# Altium footprint library PMIC.PcbLib: 52 footprints (part 1 of 4)
Each footprint in its own frame and in the unit in brackets; x right, y up, seen from the top. Pads: shape width x height; smd on the part's side, far side on the other; paste and mask are expansions set on the pad; w line width, h text height; cw(c..) or ccw(c..) is an arc to the next point about the centre after c.
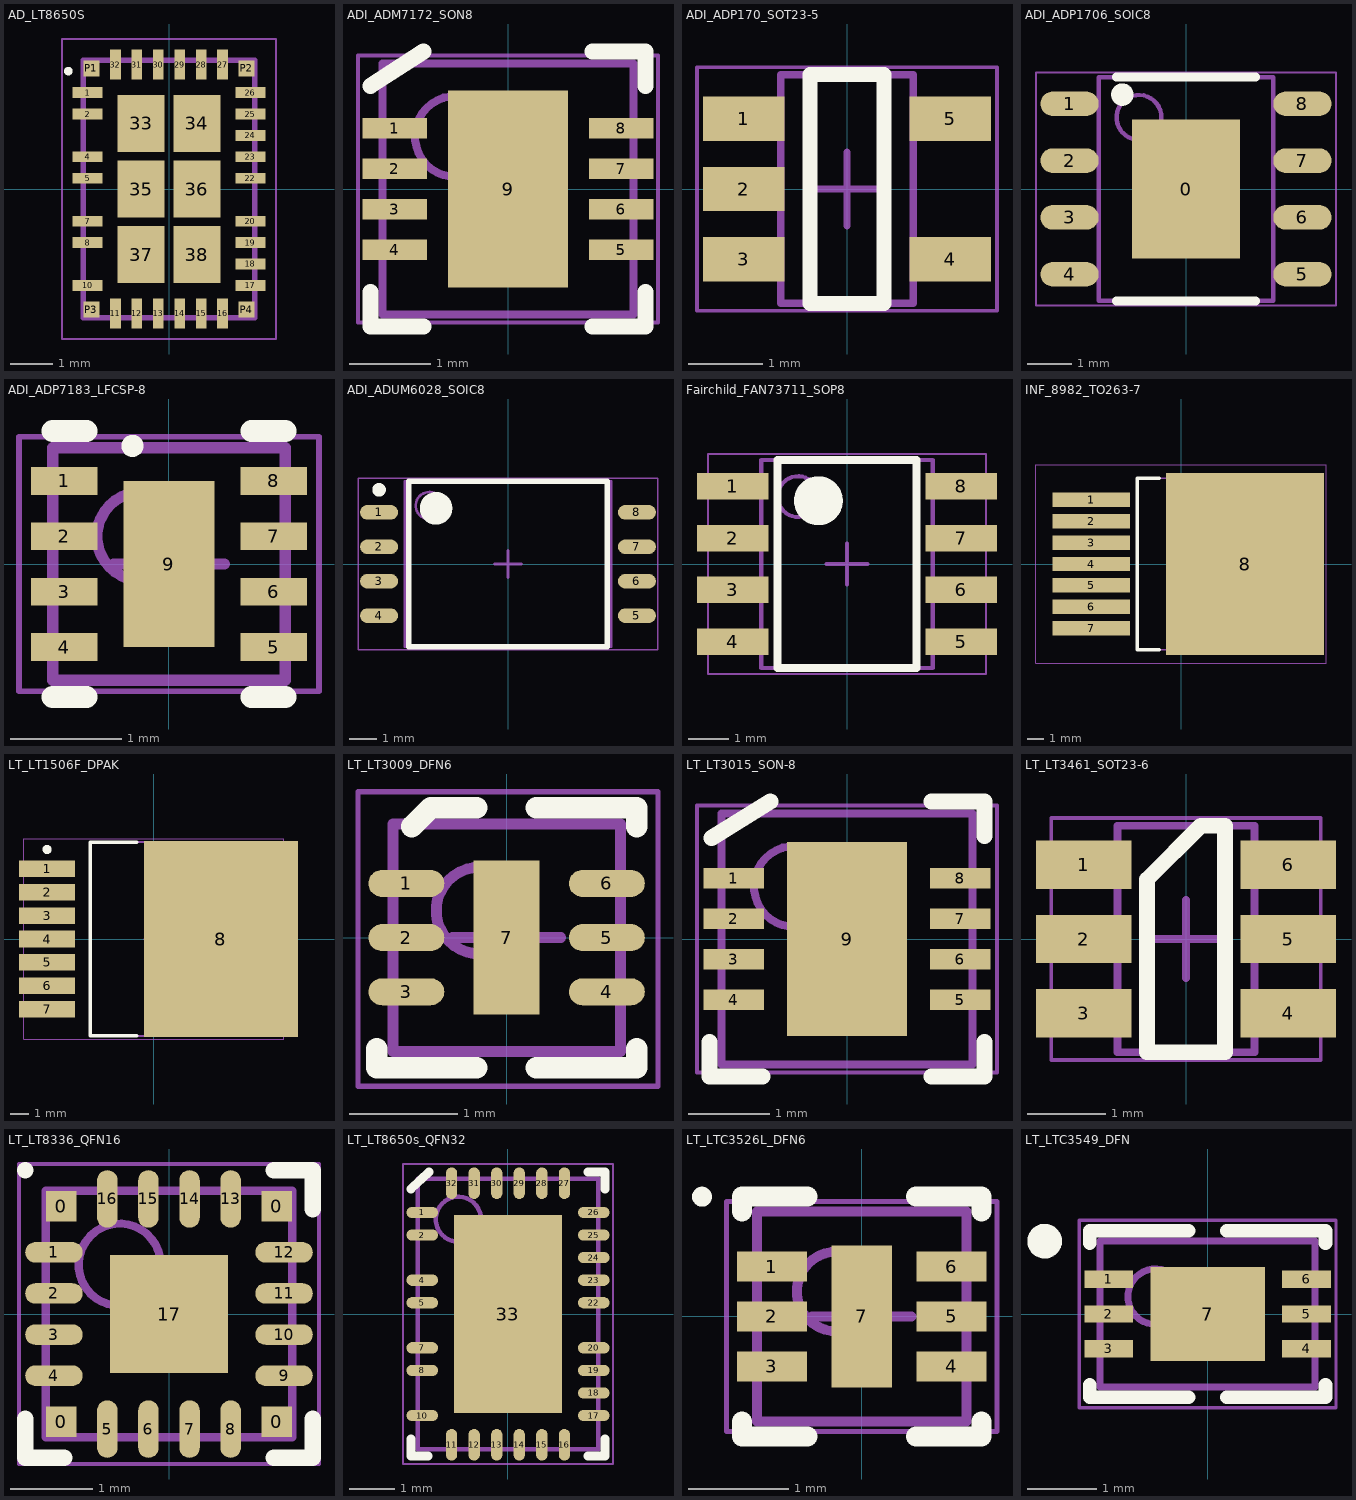
[diagram p0: the footprints below, top view; thin cyan lines are the x and y axes]

## AD_LT8650S [mm]
pads (38):
  rect 0.7x0.25 smd mask+0.05: 1(-1.9,2.25) 2(-1.9,1.75) 4(-1.9,0.75) 5(-1.9,0.25) 7(-1.9,-0.75) 8(-1.9,-1.25) 10(-1.9,-2.25) 17(1.9,-2.25) 18(1.9,-1.75) 19(1.9,-1.25) 20(1.9,-0.75) 22(1.9,0.25) 23(1.9,0.75) 24(1.9,1.25) 25(1.9,1.75) 26(1.9,2.25)
  rect 0.25x0.7 smd mask+0.05: 11(-1.25,-2.9) 12(-0.75,-2.9) 13(-0.25,-2.9) 14(0.25,-2.9) 15(0.75,-2.9) 16(1.25,-2.9) 27(1.25,2.9) 28(0.75,2.9) 29(0.25,2.9) 30(-0.25,2.9) 31(-0.75,2.9) 32(-1.25,2.9)
  rect 1.1x1.33 smd paste-2 mask+0.05: 33(-0.65,1.53) 34(0.65,1.53) 35(-0.65,0) 36(0.65,0) 37(-0.65,-1.53) 38(0.65,-1.53)
  rect 0.375x0.375 smd mask+0.05: P1(-1.813,2.812) P2(1.813,2.812) P3(-1.813,-2.812) P4(1.813,-2.812)
Top Overlay:
  circle w0.1: c-2.35,2.75 r0.05
Top Paste:
  region: 1,-1.957 0.3,-1.957 0.3,-1.105 1,-1.105
  region: 1,1.107 0.301,1.107 0.301,1.955 1,1.955
  region: 1,-0.425 0.3,-0.425 0.3,0.425 1,0.425
  region: -0.3,-1.959 -1.002,-1.959 -1.002,-1.105 -0.3,-1.105
  region: -0.3,1.107 -1.002,1.107 -1.002,1.955 -0.3,1.955
  region: -0.3,-0.426 -1.001,-0.426 -1.001,0.425 -0.3,0.425
Mechanical 13:
  lines w0.127: -2,-3 -2,3 2,3 2,-3 -2,-3
Mechanical 15:
  lines w0.05: -2.5,-3.5 -2.5,3.5 2.5,3.5 2.5,-3.5 -2.5,-3.5
3D body "LT_LT8650s_QFN32.step": height 1.03, standoff 0, extent -2.01,-3.01 2.01,3.01

## ADI_ADM7172_SON8 [mm] "SON, 8-Leads, Body 3.00x3.00mm, Pitch 0.50mm, Thermal Pad 2.44x1.49mm, IPC High Density"
height 0.8
pads (9):
  rect 0.8x0.25 smd mask+0.05: 1(-1.4,0.75) 2(-1.4,0.25) 3(-1.4,-0.25) 4(-1.4,-0.75) 5(1.4,-0.75) 6(1.4,-0.25) 7(1.4,0.25) 8(1.4,0.75)
  rect 1.49x2.44 smd mask+0.05: 9(0,0)
Top Overlay:
  lines w0.2: -1.7,-1.275 -1.7,-1.7 -1.045,-1.7 ; -1.7,1.275 -1.045,1.7 ; 1.045,-1.7 1.7,-1.7 1.7,-1.275 ; 1.045,1.7 1.7,1.7 1.7,1.275
Mechanical 13:
  circle w0.1: c-0.65,0.65 r0.5
  lines w0.1: -1.55,-1.55 1.55,-1.55 1.55,1.55 -1.55,1.55 -1.55,-1.55
Mechanical 15:
  lines w0.05: -1.855,-1.65 1.855,-1.65 1.855,1.65 -1.855,1.65 -1.855,-1.65
  lines w0.1: -0.5,0 0.5,0 ; 0,-0.5 0,0.5
3D body "ADI_ADM7172_SON8.step": height 0.8, standoff 0, extent -1.551,-1.55 1.551,1.55

## ADI_ADP170_SOT23-5 [mm] "SOT23, 5-Leads, Body 2.90x2.70mm, Pitch 0.95mm, IPC High Density"
height 1.45
pads (5):
  rect 1.1x0.6 smd mask+0.08: 1(-1.4,0.95) 2(-1.4,0) 3(-1.4,-0.95) 4(1.4,-0.95) 5(1.4,0.95)
Top Overlay:
  lines w0.2: -0.5,-1.55 0.5,-1.55 0.5,1.55 -0.5,1.55 -0.5,-1.55
Mechanical 13:
  lines w0.1: -0.9,-1.55 -0.9,1.55 0.9,1.55 0.9,-1.55 -0.9,-1.55
Mechanical 15:
  lines w0.05: -2.032,-1.65 -2.032,1.65 2.032,1.65 2.032,-1.65 -2.032,-1.65
  lines w0.1: -0.5,0 0.5,0 ; 0,-0.5 0,0.5
3D body "Microchip_MCP6561_SOT23-5.step": height 1.45, standoff 0, extent -1.7,-1.55 1.7,1.55

## ADI_ADP1706_SOIC8 [mm] "SOIC, 8-Leads, Body 4.90x3.85mm, Pitch 1.27mm, Thermal Pad 3.10x2.41mm, IPC High Density"
height 1.75
pads (9):
  rect 2.41x3.1 smd: 0(0,0)
  oval 1.3x0.55 smd: 1(-2.6,1.905) 2(-2.6,0.635) 3(-2.6,-0.635) 4(-2.6,-1.905) 5(2.6,-1.905) 6(2.6,-0.635) 7(2.6,0.635) 8(2.6,1.905)
Top Overlay:
  circle w0.25: c-1.422,2.108 r0.125
  lines w0.2: -1.55,-2.5 1.55,-2.5 ; -1.55,2.5 1.55,2.5
Mechanical 13:
  circle w0.1: c-1.05,1.6 r0.5
  lines w0.1: -1.95,-2.5 -1.95,2.5 1.95,2.5 1.95,-2.5 -1.95,-2.5
Mechanical 15:
  lines w0.05: -3.35,-2.6 -3.35,2.6 3.35,2.6 3.35,-2.6 -3.35,-2.6
  lines w0.1: -0.5,0 0.5,0 ; 0,-0.5 0,0.5
3D body "ADI_ADP1706_SOIC8.step": height 1.75, standoff 0, extent -3,-2.5 3,2.5

## ADI_ADP7183_LFCSP-8 [mm] "SON, 8-Leads, Body 2.00x2.00mm, Pitch 0.50mm, Thermal Pad 1.50x0.89mm, IPC High Density"
height 0.6
pads (9):
  rect 0.6x0.25 smd mask+0.04: 1(-0.945,0.75) 2(-0.945,0.25) 3(-0.945,-0.25) 4(-0.945,-0.75) 5(0.945,-0.75) 6(0.945,-0.25) 7(0.945,0.25) 8(0.945,0.75)
  rect 0.82x1.5 smd mask+0.02: 9(0,0)
Top Overlay:
  circle w0.1: c-0.33,1.067 r0.05
  lines w0.2: -1.05,-1.2 -0.745,-1.2 ; -1.05,1.2 -0.745,1.2 ; 0.745,-1.2 1.05,-1.2 ; 0.745,1.2 1.05,1.2
Mechanical 13:
  circle w0.1: c-0.25,0.25 r0.4
  lines w0.1: -1.05,-1.05 -1.05,1.05 1.05,1.05 1.05,-1.05 -1.05,-1.05
Mechanical 15:
  lines w0.05: -1.355,-1.15 -1.355,1.15 1.355,1.15 1.355,-1.15 -1.355,-1.15
  lines w0.1: -0.5,0 0.5,0 ; 0,-0.5 0,0.5
3D body "ADI_ADP7183_LFCSP-8.step": height 0.6, standoff 0, extent -1.07,-1.05 1.07,1.05

## ADI_ADUM6028_SOIC8 [mm] "SOIC, 8-Leads, Body 5.85x7.50mm, Pitch 1.27mm, IPC High Density"
height 2.65
pads (8):
  oval 1.4x0.55 smd: 1(-4.75,1.905) 2(-4.75,0.635) 3(-4.75,-0.635) 4(-4.75,-1.905) 5(4.75,-1.905) 6(4.75,-0.635) 7(4.75,0.635) 8(4.75,1.905)
Top Overlay:
  circle w0.25: c-4.75,2.73 r0.125
  circle w0.6: c-2.65,2.05 r0.3
  lines w0.2: -3.65,-3.05 -3.65,3.05 3.65,3.05 3.65,-3.05 -3.65,-3.05
Mechanical 13:
  circle w0.1: c-2.9,2.15 r0.5
  lines w0.1: -3.8,-3.05 -3.8,3.05 3.8,3.05 3.8,-3.05 -3.8,-3.05
Mechanical 15:
  lines w0.05: -5.525,-3.15 -5.525,3.15 5.525,3.15 5.525,-3.15 -5.525,-3.15
  lines w0.1: -0.5,0 0.5,0 ; 0,-0.5 0,0.5
3D body "ADI_ADUM6028_SOIC8.step": height 2.65, standoff 0, extent -5.155,-3.05 5.155,3.05

## Fairchild_FAN73711_SOP8 [mm] "SOP, 8-Leads, Body 4.92x3.95mm, Pitch 1.27mm, IPC High Density"
height 1.8
pads (8):
  rect 1.75x0.65 smd: 1(-2.8,1.905) 2(-2.8,0.635) 3(-2.8,-0.635) 4(-2.8,-1.905) 5(2.8,-1.905) 6(2.8,-0.635) 7(2.8,0.635) 8(2.8,1.905)
Top Overlay:
  circle w0.6: c-0.7,1.55 r0.3
  lines w0.2: -1.7,-2.55 -1.7,2.55 1.7,2.55 1.7,-2.55 -1.7,-2.55
Mechanical 13:
  circle w0.1: c-1.2,1.65 r0.5
  lines w0.1: -2.1,-2.55 -2.1,2.55 2.1,2.55 2.1,-2.55 -2.1,-2.55
Mechanical 15:
  lines w0.05: -3.4,-2.7 -3.4,2.7 3.4,2.7 3.4,-2.7 -3.4,-2.7
  lines w0.1: -0.5,0 0.5,0 ; 0,-0.5 0,0.5
3D body "Fairchild_FAN73711_SOP8.step": height 1.8, standoff 0, extent -3,-2.55 3,2.55

## INF_8982_TO263-7 [mm] "D2-PAK, 8-Pads, Body 7.82x8.46mm (max), IPC Low Density"
height 4.4
pads (8):
  rect 4.6x0.85 smd: 1(-5.35,3.81) 2(-5.35,2.54) 3(-5.35,1.27) 4(-5.35,0) 5(-5.35,-1.27) 6(-5.35,-2.54) 7(-5.35,-3.81)
  rect 9.4x10.8 smd: 8(3.8,0)
Top Overlay:
  lines w0.2: -1.3,-5.1 -2.6,-5.1 -2.6,5.1 -1.3,5.1
Mechanical 13:
  lines w0.1: -2.6,-5.1 6.85,-5.1 6.85,5.1 -2.6,5.1 -2.6,-5.1
Mechanical 15:
  lines w0.05: -8.625,-5.9 8.625,-5.9 8.625,5.9 -8.625,5.9 -8.625,-5.9
  lines w0.1: -0.5,0 0.5,0 ; 0,-0.5 0,0.5
3D body "INF_8982_TO263-7.step": height 4.5, standoff 0, extent -6.95,-5.1 8.05,5.1

## LT_LT1506F_DPAK [mm]
height 4.58
pads (8):
  rect 3.05x0.9 smd: 1(-5.8,3.81) 2(-5.8,2.54) 3(-5.8,1.27) 4(-5.8,0) 5(-5.8,-1.27) 6(-5.8,-2.54) 7(-5.8,-3.81)
  rect 8.38x10.66 smd: 8(3.65,0)
Top Overlay:
  circle w0.25: c-5.8,4.868 r0.125
  lines w0.2: -0.94,-5.25 -3.45,-5.25 -3.45,5.25 -0.94,5.25
Mechanical 13:
  lines w0.1: -3.45,-5.275 5.95,-5.275 5.95,5.275 -3.45,5.275 -3.45,-5.275
Mechanical 15:
  lines w0.05: -7.075,-5.45 7.075,-5.45 7.075,5.45 -7.075,5.45 -7.075,-5.45
  lines w0.1: -0.5,0 0.5,0 ; 0,-0.5 0,0.5
3D body "LT_LT1506F_DPAK.step": height 4.57, standoff 0, extent -5.822,-5.275 7.728,5.275

## LT_LT3009_DFN6 [mm] "QFN, 6-Leads, Body 2.00x2.00mm, Pitch 0.50mm, Thermal Pad 0.61x1.42mm, IPC Medium Density"
height 0.8
pads (7):
  oval 0.7x0.25 smd mask+0.06: 1(-0.925,0.5) 2(-0.925,0) 3(-0.925,-0.5) 4(0.925,-0.5) 5(0.925,0) 6(0.925,0.5)
  rect 0.61x1.42 smd mask+0.06: 7(0,0)
Top Overlay:
  lines w0.2: -1.2,-1.025 -1.2,-1.2 -0.275,-1.2 ; -0.875,1.025 -0.7,1.2 -0.275,1.2 ; 0.275,-1.2 1.2,-1.2 1.2,-1.025 ; 0.275,1.2 1.2,1.2 1.2,1.025
Mechanical 13:
  circle w0.1: c-0.25,0.25 r0.4
  lines w0.1: -1.05,-1.05 -1.05,1.05 1.05,1.05 1.05,-1.05 -1.05,-1.05
Mechanical 15:
  lines w0.05: -1.372,-1.372 -1.372,1.346 1.397,1.346 1.397,-1.372 -1.372,-1.372
  lines w0.1: -0.5,0 0.5,0 ; 0,-0.5 0,0.5
3D body "LT_LT3009_DFN6.step": height 0.8, standoff 0, extent -1.051,-1.05 1.051,1.05

## LT_LT3015_SON-8 [mm] "SON, 8-Leads, Body 3.00x3.00mm, Pitch 0.50mm, Thermal Pad 2.40x1.49mm, IPC High Density"
height 1
pads (9):
  rect 0.75x0.25 smd mask+0.07: 1(-1.4,0.75) 2(-1.4,0.25) 3(-1.4,-0.25) 4(-1.4,-0.75) 5(1.4,-0.75) 6(1.4,-0.25) 7(1.4,0.25) 8(1.4,0.75)
  rect 1.49x2.4 smd mask+0.07: 9(0,0)
Top Overlay:
  lines w0.2: -1.7,-1.275 -1.7,-1.7 -1.045,-1.7 ; -1.675,1.25 -0.95,1.7 ; 1.045,-1.7 1.7,-1.7 1.7,-1.275 ; 1.045,1.7 1.7,1.7 1.7,1.275
Mechanical 13:
  circle w0.1: c-0.65,0.65 r0.5
  lines w0.1: -1.55,-1.55 1.55,-1.55 1.55,1.55 -1.55,1.55 -1.55,-1.55
Mechanical 15:
  lines w0.05: -1.855,-1.65 1.855,-1.65 1.855,1.65 -1.855,1.65 -1.855,-1.65
  lines w0.1: -0.5,0 0.5,0 ; 0,-0.5 0,0.5
3D body "LT_LT3015_SON-8.step": height 1, standoff 0, extent -1.551,-1.55 1.551,1.55

## LT_LT3461_SOT23-6 [mm] "SOT23, 6-Leads, Body 2.90x2.80mm, Pitch 0.95mm, IPC High Density"
height 1
pads (6):
  rect 1.22x0.62 smd mask+0.07: 1(-1.31,0.95) 2(-1.31,0) 3(-1.31,-0.95) 4(1.31,-0.95) 5(1.31,0) 6(1.31,0.95)
Top Overlay:
  lines w0.2: -0.5,-1.45 -0.5,0.762 0.188,1.45 0.5,1.45 0.5,-1.45 -0.5,-1.45
Mechanical 13:
  lines w0.1: -0.875,-1.45 0.875,-1.45 0.875,1.45 -0.875,1.45 -0.875,-1.45
Mechanical 15:
  lines w0.05: -1.725,-1.55 1.725,-1.55 1.725,1.55 -1.725,1.55 -1.725,-1.55
  lines w0.1: -0.5,0 0.5,0 ; 0,-0.5 0,0.5
3D body "LT_LT3461_SOT23-6.step": height 1, standoff 0, extent -1.4,-1.45 1.4,1.45

## LT_LT8336_QFN16 [mm] "QFN, 16-Leads, Body 3.00x3.00mm, Pitch 0.50mm, Thermal Pad 1.44x1.44mm, IPC High Density"
height 1.03
pads (21):
  rect 0.375x0.375 smd mask+0.05: 0(-1.31,-1.31) 0(-1.31,1.31) 0(1.31,-1.31) 0(1.31,1.31)
  oval 0.7x0.25 smd mask+0.05: 1(-1.4,0.75) 2(-1.4,0.25) 3(-1.4,-0.25) 4(-1.4,-0.75) 9(1.4,-0.75) 10(1.4,-0.25) 11(1.4,0.25) 12(1.4,0.75)
  oval 0.25x0.7 smd mask+0.05: 5(-0.75,-1.4) 6(-0.25,-1.4) 7(0.25,-1.4) 8(0.75,-1.4) 13(0.75,1.4) 14(0.25,1.4) 15(-0.25,1.4) 16(-0.75,1.4)
  rect 1.44x1.44 smd mask+0.05: 17(0,0)
Top Overlay:
  lines w0.2: -1.75,-1.275 -1.75,-1.75 -1.275,-1.75 ; 1.275,-1.75 1.75,-1.75 1.75,-1.275 ; 1.275,1.75 1.75,1.75 1.75,1.275 ; -1.75,1.75 -1.75,1.75
Mechanical 13:
  circle w0.1: c-0.6,0.6 r0.5
  lines w0.1: -1.5,-1.5 1.5,-1.5 1.5,1.5 -1.5,1.5 -1.5,-1.5
Mechanical 15:
  lines w0.05: -1.825,-1.825 1.825,-1.825 1.825,1.825 -1.825,1.825 -1.825,-1.825
  lines w0.1: -0.5,0 0.5,0 ; 0,-0.5 0,0.5
3D body "LT_LT8336_QFN16.step": height 1.03, standoff 0, extent -1.51,-1.51 1.51,1.51

## LT_LT8650s_QFN32 [mm] "QFN, 32-Leads, Body 4.00x6.00mm, Pitch 0.50mm, Thermal Pad 2.40x4.40mm, IPC High Density"
height 1.03
pads (29):
  oval 0.7x0.25 smd mask+0.05: 1(-1.9,2.25) 2(-1.9,1.75) 4(-1.9,0.75) 5(-1.9,0.25) 7(-1.9,-0.75) 8(-1.9,-1.25) 10(-1.9,-2.25) 17(1.9,-2.25) 18(1.9,-1.75) 19(1.9,-1.25) 20(1.9,-0.75) 22(1.9,0.25) 23(1.9,0.75) 24(1.9,1.25) 25(1.9,1.75) 26(1.9,2.25)
  oval 0.25x0.7 smd mask+0.05: 11(-1.25,-2.9) 12(-0.75,-2.9) 13(-0.25,-2.9) 14(0.25,-2.9) 15(0.75,-2.9) 16(1.25,-2.9) 27(1.25,2.9) 28(0.75,2.9) 29(0.25,2.9) 30(-0.25,2.9) 31(-0.75,2.9) 32(-1.25,2.9)
  rect 2.4x4.4 smd mask+0.05: 33(0,0)
Top Overlay:
  lines w0.2: -2.15,-2.775 -2.15,-3.15 -1.775,-3.15 ; -2.15,2.775 -1.75,3.15 ; 1.775,-3.15 2.15,-3.15 2.15,-2.775 ; 1.775,3.15 2.15,3.15 2.15,2.775
Mechanical 13:
  circle w0.1: c-1.1,2.1 r0.5
  lines w0.1: -2,-3 2,-3 2,3 -2,3 -2,-3
Mechanical 15:
  lines w0.05: -2.325,-3.325 2.325,-3.325 2.325,3.325 -2.325,3.325 -2.325,-3.325
  lines w0.1: -0.5,0 0.5,0 ; 0,-0.5 0,0.5
3D body "LT_LT8650s_QFN32.step": height 1.03, standoff 0, extent -2.01,-3.01 2.01,3.01

## LT_LTC3526L_DFN6 [mm] "SON, 6-Leads, Body 2.00x2.00mm, Pitch 0.50mm, Thermal Pad 1.60x0.89mm, IPC High Density"
height 0.8
pads (7):
  rect 0.7x0.3 smd mask+0.04: 1(-0.9,0.5) 2(-0.9,0) 3(-0.9,-0.5) 4(0.9,-0.5) 5(0.9,0) 6(0.9,0.5)
  rect 0.61x1.42 smd mask+0.04: 7(0,0)
Top Overlay:
  circle w0.1: c-1.6,1.2 r0.05
  lines w0.2: -1.2,-1.05 -1.2,-1.2 -0.545,-1.2 ; -1.2,1.05 -1.2,1.2 -0.545,1.2 ; 0.545,-1.2 1.2,-1.2 1.2,-1.05 ; 0.545,1.2 1.2,1.2 1.2,1.05
Mechanical 13:
  circle w0.1: c-0.25,0.25 r0.4
  lines w0.1: -1.05,-1.05 1.05,-1.05 1.05,1.05 -1.05,1.05 -1.05,-1.05
Mechanical 15:
  lines w0.05: -1.355,-1.15 1.355,-1.15 1.355,1.15 -1.355,1.15 -1.355,-1.15
  lines w0.1: -0.5,0 0.5,0 ; 0,-0.5 0,0.5
3D body "LT_LTC3526L_DFN6.step": height 0.8, standoff 0, extent -1.051,-1.05 1.051,1.05

## LT_LTC3549_DFN [mm] "QFN, 6-Leads, Body 3.00x2.00mm, Pitch 0.50mm, Thermal Pad 1.65x1.35mm, IPC High Density"
height 0.8
pads (7):
  rect 0.7x0.25 smd mask+0.038: 1(-1.425,0.5) 2(-1.425,0) 3(-1.425,-0.5) 4(1.425,-0.5) 5(1.425,0) 6(1.425,0.5)
  rect 1.65x1.35 smd mask+0.025: 7(0,0)
Top Overlay:
  circle w0.25: c-2.35,1.05 r0.125
  lines w0.2: -1.7,-1.025 -1.7,-1.2 -0.275,-1.2 ; -1.7,1.025 -1.7,1.2 -0.275,1.2 ; 0.275,-1.2 1.7,-1.2 1.7,-1.025 ; 0.275,1.2 1.7,1.2 1.7,1.025
Mechanical 13:
  circle w0.1: c-0.75,0.25 r0.4
  lines w0.1: -1.55,-1.05 -1.55,1.05 1.55,1.05 1.55,-1.05 -1.55,-1.05
Mechanical 15:
  lines w0.05: -1.85,-1.35 -1.85,1.35 1.85,1.35 1.85,-1.35 -1.85,-1.35
  lines w0.1: -0.5,0 0.5,0 ; 0,-0.5 0,0.5
3D body "LT_LTC3549_DFN.step": height 0.8, standoff 0, extent -1.551,-1.05 1.551,1.05